# Altium schematic symbol library 2021-03-17_08-27-32.SchLib: 2 symbols
Pins are listed as number, name and electrical type; pins without a type are passive.

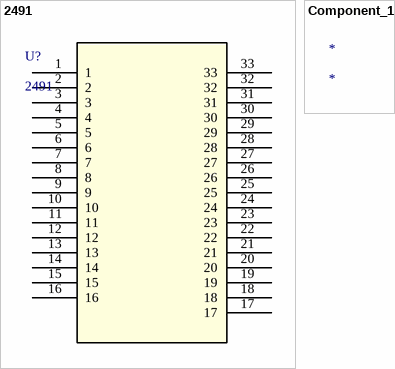
[diagram p0: symbols 2491 to Component_1]

## 2491
designator U?
No Description Available; Built_By: EMA_Matt; Vendor: Adafruit Industries; SourceLibrary: Adafruit_Industries_10-15-2019; Manufacturer_Part_Number: 2491; Copyright: Copyright (C) 2018 Accelerated Designs. All rights reserved; RefDes: RefDes; Type: DEV
footprint QFN_2491_ADA
footprint Esp-12F (Footprint not found)
pins: 1, 2, 3, 4, 5, 6, 7, 8, 9, 10, 11, 12, 13, 14, 15, 16, 17, 18, 19, 20, 21, 22, 23, 24, 25, 26, 27, 28, 29, 30, 31, 32, 33

## Component_1
designator *